# Altium schematic symbol library ATANY2400SC-3_r4.SCHLIB: 1 symbol
Pins are listed as number, name and electrical type; pins without a type are passive.

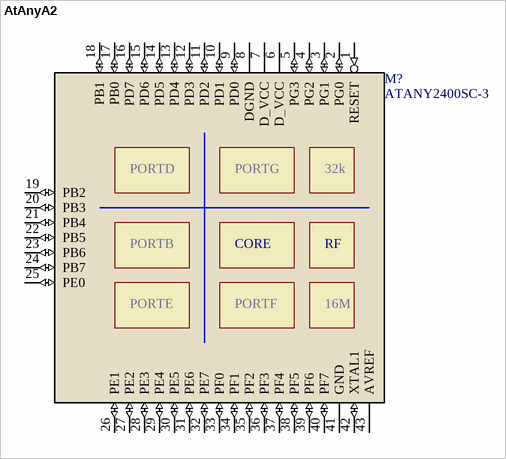
[diagram p0: symbol AtAnyA2]

## AtAnyA2
designator M?, comment ATANY2400SC-3
PDF: http://www.an-solutions.de/documents/@ANY2400SC_Datasheet_Rev8.pdf; BUY_LINK: http://www.an-solutions.de/products/2_4_ghz/atany2400sc_zigbee_modules/downloads.html; PRICE: 50; ID: ATANY2400SC-3
footprint ATANY2400SC3
pins: 1 RESET (in), 2 PG0 (io), 3 PG1 (io), 4 PG2 (io), 5 PG3 (io), 6 D_VCC, 7 D_VCC, 8 DGND, 9 PD0 (io), 10 PD1 (io), 11 PD2 (io), 12 PD3 (io), 13 PD4 (io), 14 PD5 (io), 15 PD6 (io), 16 PD7 (io), 17 PB0 (io), 18 PB1 (io), 19 PB2 (io), 20 PB3 (io), 21 PB4 (io), 22 PB5 (io), 23 PB6 (io), 24 PB7 (io), 25 PE0 (io), 26 PE1 (io), 27 PE2 (io), 28 PE3 (io), 29 PE4 (io), 30 PE5 (io), 31 PE6 (io), 32 PE7 (io), 33 PF0 (io), 34 PF1 (io), 35 PF2 (io), 36 PF3 (io), 37 PF4 (io), 38 PF5 (io), 39 PF6 (io), 40 PF7 (io), 41 GND, 42 XTAL1 (io), 43 AVREF (power)
text: PORTD; PORTG; 32k; PORTB; CORE; RF; PORTE; PORTF; 16M